# EAGLE library part 1725737 (library CN--1725737--10 pin connector)
Conn; Term Blk; PCB; 10; 2.54mm; Front; Screw; 26-20 AWG; 6A; 63V; Solder; 1.5kV
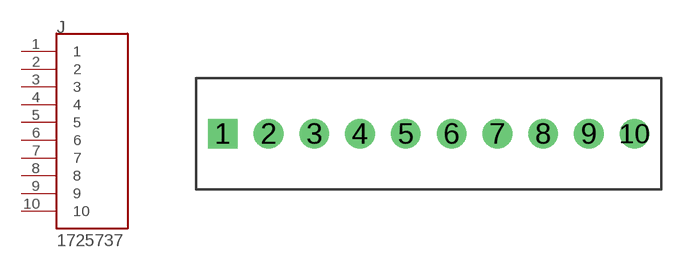
[diagram p0: symbol with the pads of PC_1725737; footprint PC_1725737]

Designator prefix J

## 1725737 (Description: Conn; Term Blk; PCB; 10; 2.54mm; Front; Screw; 26-20 AWG; 6A; 63V; Solder; 1.5kV; Digi-Key_Part_Number: 277-1281-ND; Digi-Key_Purchase_URL: https://www.digikey.com/product-detail/en/phoenix-contact/1725737/277-1281-ND/267470?utm_source=snapeda&utm_medium=aggregator&utm_campaign=symbol; MF: Phoenix Contact; MP: 1725737; Package: None)  [PC_1725737]
1  1  pas
2  2  pas
3  3  pas
4  4  pas
5  5  pas
6  6  pas
7  7  pas
8  8  pas
9  9  pas
10  10  pas

## Footprint PC_1725737 (pad centres in mm)
drill 1.1 square: 1 -11.43,0
drill 1.1: 2 -8.89,0; 3 -6.35,0; 4 -3.81,0; 5 -1.27,0; 6 1.27,0; 7 3.81,0; 8 6.35,0; 9 8.89,0; 10 11.43,0